# EAGLE library part CAN9 (library ArdDisp)
Cannon 9 (D-SUB) 90st (R) přímý (V) samec samice (MALE, FEMALE) 0.1mm pady a rozměry Jara 1.8.2012 podle skutecnych konektoru ve skladu 90st (R) jsou nejaky co kupujeme - prvni piny od cela 8,5mm FCI 10090096-P094VLF CAN9 samec primy s pajecimi distanckami FCI 10090098-S094VLF samice primy s pajecimi distanckami
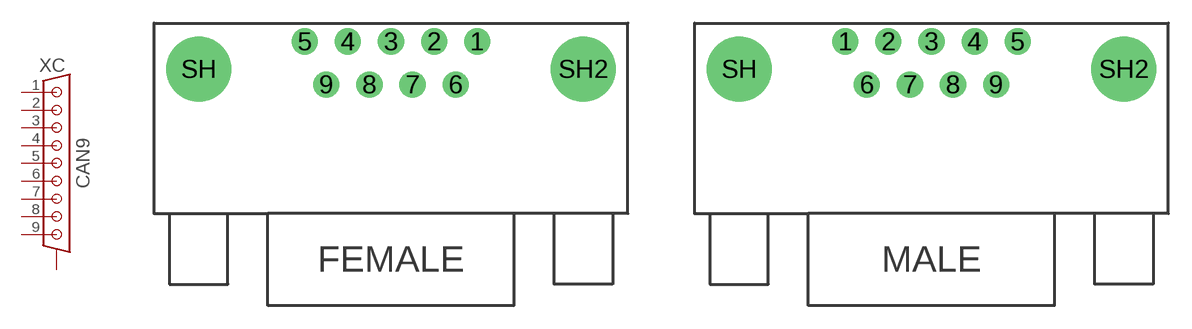
[diagram p8: symbol with the pads of CAN9-R-F; footprints CAN9-R-F, CAN9-R-M]

Designator prefix XC

## CAN9-R-F  [CAN9-R-F]
1  1  pas
2  2  pas
3  3  pas
4  4  pas
5  5  pas
6  6  pas
7  7  pas
8  8  pas
9  9  pas
SH  SH  pas
SH2  SH  pas

## CAN9-R-M  [CAN9-R-M]
Pads as for CAN9-R-F

## CAN9-V-F  [CAN9-V-F]
Pads as for CAN9-R-F

## CAN9-V-M  [CAN9-V-M]
Pads as for CAN9-R-F

## Footprint CAN9-R-F (pad centres in mm)
Jara 1.8.2012 podle skutecnych konektoru ve skladu GRID 0,1mm
drill 1 pad 1.7: 1 5.6,11.2; 2 2.8,11.2; 3 0,11.2; 4 -2.8,11.2; 5 -5.6,11.2; 6 4.2,8.4; 7 1.4,8.4; 8 -1.4,8.4; 9 -4.2,8.4
drill 3.2 pad 4.2: SH -12.5,9.4; SH2 12.5,9.4

## Footprint CAN9-R-M (pad centres in mm)
Jara 1.8.2012 podle skutecnych konektoru ve skladu GRID 0,1mm
drill 1 pad 1.7: 1 -5.6,11.2; 2 -2.8,11.2; 3 0,11.2; 4 2.8,11.2; 5 5.6,11.2; 6 -4.2,8.4; 7 -1.4,8.4; 8 1.4,8.4; 9 4.2,8.4
drill 3.2 pad 4.2: SH -12.5,9.4; SH2 12.5,9.4

## Footprint CAN9-V-F (pad centres in mm)
0.1mm pady a rozměry FCI 10090098-S094VLF samice primy s pajecimi distanckami
drill 1 pad 1.7: 1 5.6,1.4; 2 2.8,1.4; 3 0,1.4; 4 -2.8,1.4; 5 -5.6,1.4; 6 4.2,-1.4; 7 1.4,-1.4; 8 -1.4,-1.4; 9 -4.2,-1.4
drill 3.2 pad 4.2: SH -12.5,0; SH2 12.5,0

## Footprint CAN9-V-M (pad centres in mm)
0.1mm pady a rozměry FCI 10090096-P094VLF CAN9 samec primy s pajecimi distanckami
drill 1 pad 1.7: 1 -5.6,1.4; 2 -2.8,1.4; 3 0,1.4; 4 2.8,1.4; 5 5.6,1.4; 6 -4.2,-1.4; 7 -1.4,-1.4; 8 1.4,-1.4; 9 4.2,-1.4
drill 3.2 pad 4.2: SH -12.5,0; SH2 12.5,0